# Altium footprint library us_#2.PcbLib: 14 footprints
Each footprint in its own frame and in the unit in brackets; x right, y up, seen from the top. Pads: shape width x height; smd on the part's side, far side on the other; paste and mask are expansions set on the pad; w line width, h text height; cw(c..) or ccw(c..) is an arc to the next point about the centre after c.
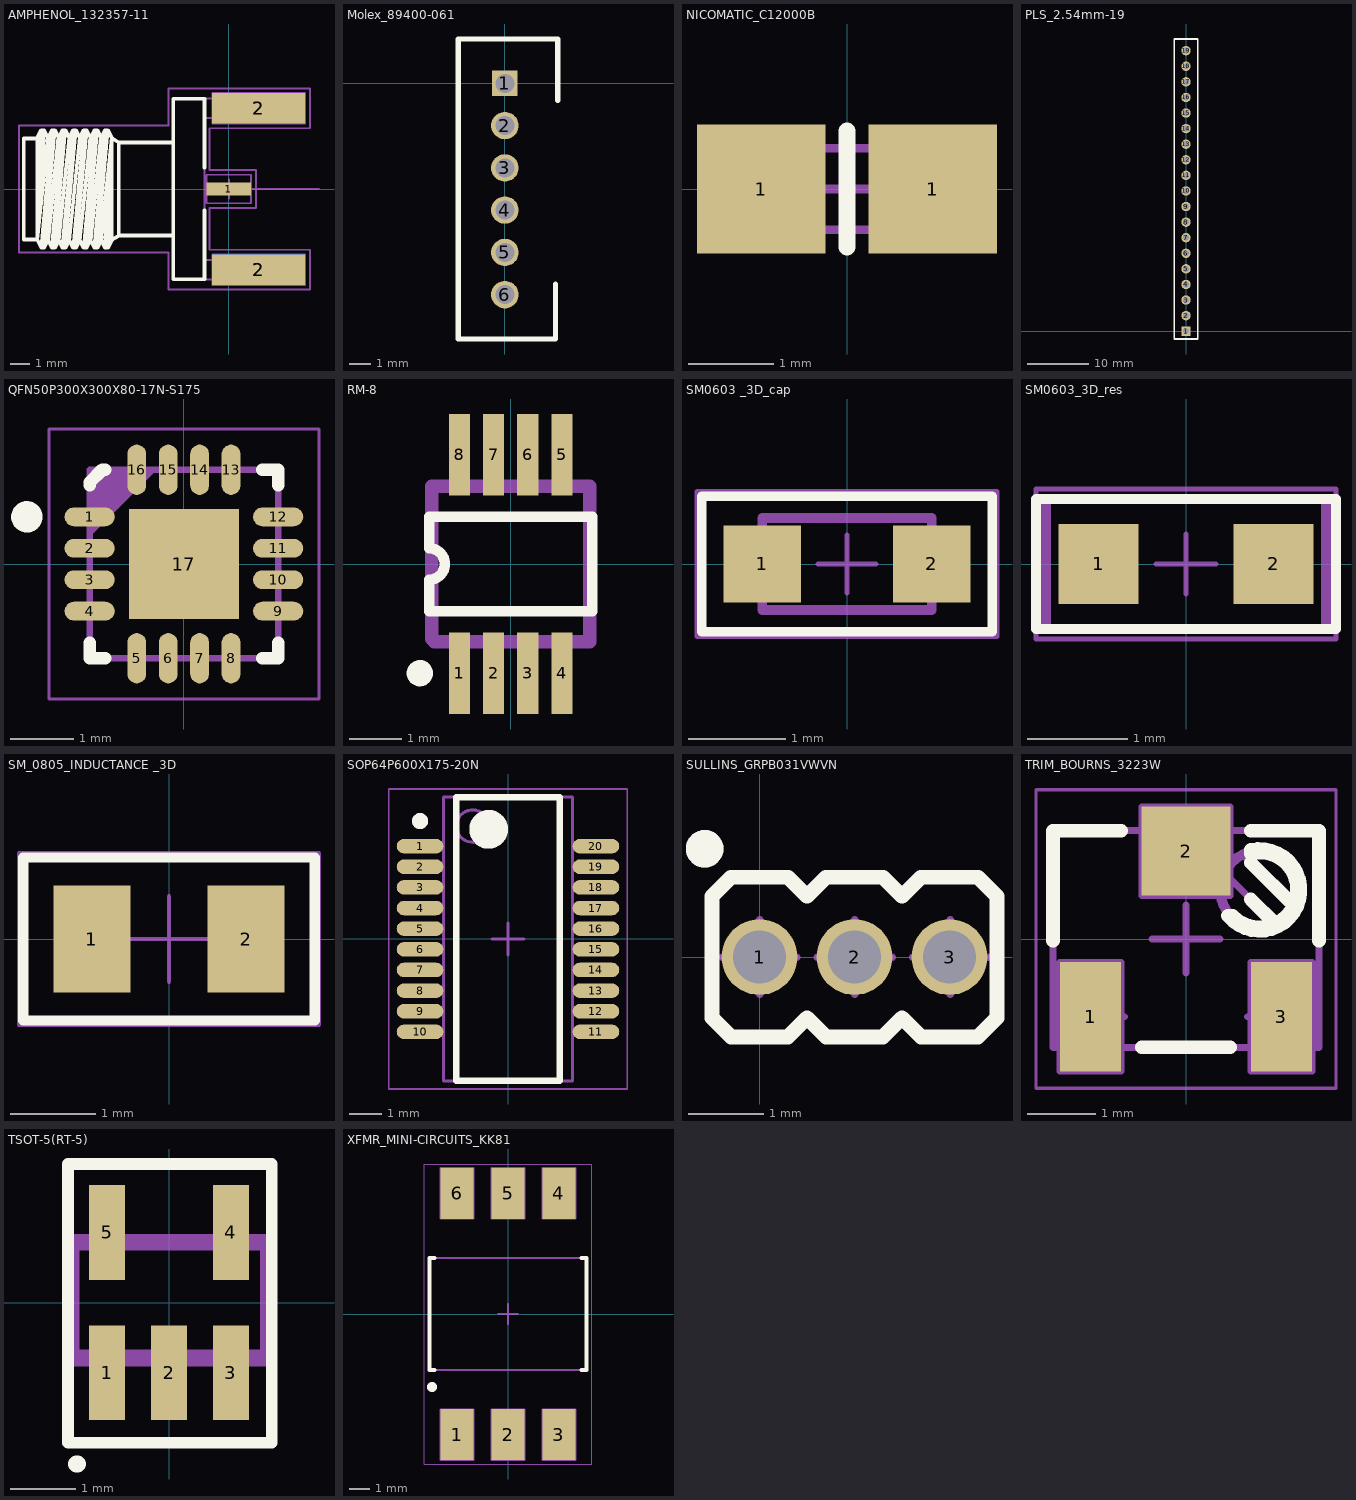
[diagram p0: the footprints below, top view; thin cyan lines are the x and y axes]

## AMPHENOL_132357-11 [mm]
pads (5):
  rect 2.35x0.7 smd: 1(0,0)
  rect 4.9x1.6 smd: 2(1.575,-4.25) 2(1.575,4.25)
  rect 4.9x1.6 smd far side: 2(1.575,-4.25) 2(1.575,4.25)
Top Overlay:
  lines w0.2: -10.09,2.665 -10.805,2.665 -10.805,-2.665 -10.09,-2.665 ; -6.17,-2.665 -5.795,-2.453 ; -2.925,-2.453 -5.795,-2.453 ; -2.925,2.447 -5.795,2.447 ; -1.275,-1.137 -1.275,-4.76 -2.925,-4.76 -2.925,4.76 -1.275,4.76 -1.275,1.137 ; -10.09,-2.665 -10.09,2.715 -9.879,3.094 ; -10.09,-2.665 -9.879,-3.094 ; -10.09,-2.665 -9.53,2.715 ; -10.09,-2.665 -9.741,3.094 ; -10.09,-2.665 -9.879,3.094 ; -9.879,-3.094 -9.741,-3.094 ; -9.879,-3.094 -9.319,3.094 ; -9.879,3.094 -9.741,3.094 ; -9.741,-3.094 -9.53,-2.715 ; -9.741,-3.094 -9.181,3.094 ; -9.741,3.094 -9.53,2.715 ; -9.53,-2.715 -9.319,-3.094 ; -9.53,-2.715 -8.97,2.715 ; -9.53,2.715 -9.319,3.094 ; -9.319,-3.094 -9.181,-3.094 ; -9.319,-3.094 -8.759,3.094 ; -9.319,3.094 -9.181,3.094 ; -9.181,-3.094 -8.97,-2.715 ; -9.181,-3.094 -8.621,3.094 ; -9.181,3.094 -8.97,2.715 ; -8.97,-2.715 -8.759,-3.094 ; -8.97,-2.715 -8.41,2.715 ; -8.97,2.715 -8.759,3.094 ; -8.759,-3.094 -8.621,-3.094 ; -8.759,-3.094 -8.199,3.094 ; -8.759,3.094 -8.621,3.094 ; -8.621,-3.094 -8.41,-2.715 ; -8.621,-3.094 -8.061,3.094 ; -8.621,3.094 -8.41,2.715 ; -8.41,-2.715 -8.199,-3.094 ; -8.41,-2.715 -7.85,2.715 ; -8.41,2.715 -8.199,3.094 ; -8.199,-3.094 -8.061,-3.094 ; -8.199,-3.094 -7.639,3.094 ; -8.199,3.094 -8.061,3.094 ; -8.061,-3.094 -7.85,-2.715 ; -8.061,-3.094 -7.501,3.094 ; -8.061,3.094 -7.85,2.715 ; -7.85,-2.715 -7.639,-3.094 ; -7.85,-2.715 -7.29,2.715 ; -7.85,2.715 -7.639,3.094 ; -7.639,-3.094 -7.501,-3.094 ; -7.639,-3.094 -7.079,3.094 ; -7.639,3.094 -7.501,3.094 ; -7.501,-3.094 -7.29,-2.715 ; -7.501,-3.094 -6.941,3.094 ; -7.501,3.094 -7.29,2.715 ; -7.29,-2.715 -7.079,-3.094 ; -7.29,-2.715 -6.73,2.715 ; -7.29,2.715 -7.079,3.094 ; -7.079,-3.094 -6.941,-3.094 ; -7.079,-3.094 -6.519,3.094 ; -7.079,3.094 -6.941,3.094 ; -6.941,-3.094 -6.73,-2.715 ; -6.941,-3.094 -6.381,3.094 ; -6.941,3.094 -6.73,2.715 ; -6.73,-2.715 -6.519,-3.094 ; -6.73,-2.715 -6.17,2.713 ; -6.73,2.715 -6.519,3.094 ; -6.519,-3.094 -6.381,-3.094 ; -6.519,-3.094 -6.17,2.713 ; -6.519,3.094 -6.381,3.094 ; -6.381,-3.094 -6.17,-2.715 -6.17,2.713 ; -6.381,-3.094 -6.17,2.665 -5.795,2.447 ; -6.381,3.094 -6.17,2.713 ; -5.795,-2.453 -5.795,2.447
Mechanical 8:
  lines w0.1: -0.5,0 0,0 ; 0,-0.5 0,0 ; 0,0.5 0,0 ; 0.5,0 0,0 ; 1.075,-4.25 1.575,-4.25 ; 1.075,4.25 1.575,4.25 ; 1.575,-4.75 1.575,-4.25 ; 1.575,-3.75 1.575,-4.25 ; 1.575,3.75 1.575,4.25 ; 1.575,4.75 1.575,4.25 ; 2.075,-4.25 1.575,-4.25 ; 2.075,4.25 1.575,4.25 ; -1.175,-0.75 -1.175,0.75 1.175,0.75 1.175,-0.75 -1.175,-0.75 ; -0.875,-5.05 4.025,-5.05 4.025,-3.45 -0.875,-3.45 -0.875,-5.05 ; -0.875,3.45 4.025,3.45 4.025,5.05 -0.875,5.05 -0.875,3.45
Mechanical 14:
  lines w0.1: -10.09,2.665 -10.805,2.665 -10.805,-2.665 -10.09,-2.665 ; -6.17,-2.665 -5.795,-2.453 ; -2.925,-2.453 -5.795,-2.453 ; -2.925,2.447 -5.795,2.447 ; -1.275,-4.76 -1.275,0 ; -1.275,-3.74 3.475,-3.74 3.475,-4.76 -2.925,-4.76 -2.925,4.76 3.475,4.76 3.475,3.74 -1.275,3.74 ; -1.275,-0.251 0.635,-0.251 0.635,0.251 -1.275,0.251 ; -1.275,4.76 -1.275,0 ; 4.75,0 -1.275,0 ; -10.09,-2.665 -10.09,2.715 -9.879,3.094 ; -10.09,-2.665 -9.879,-3.094 ; -10.09,-2.665 -9.53,2.715 ; -10.09,-2.665 -9.741,3.094 ; -10.09,-2.665 -9.879,3.094 ; -9.879,-3.094 -9.741,-3.094 ; -9.879,-3.094 -9.319,3.094 ; -9.879,3.094 -9.741,3.094 ; -9.741,-3.094 -9.53,-2.715 ; -9.741,-3.094 -9.181,3.094 ; -9.741,3.094 -9.53,2.715 ; -9.53,-2.715 -9.319,-3.094 ; -9.53,-2.715 -8.97,2.715 ; -9.53,2.715 -9.319,3.094 ; -9.319,-3.094 -9.181,-3.094 ; -9.319,-3.094 -8.759,3.094 ; -9.319,3.094 -9.181,3.094 ; -9.181,-3.094 -8.97,-2.715 ; -9.181,-3.094 -8.621,3.094 ; -9.181,3.094 -8.97,2.715 ; -8.97,-2.715 -8.759,-3.094 ; -8.97,-2.715 -8.41,2.715 ; -8.97,2.715 -8.759,3.094 ; -8.759,-3.094 -8.621,-3.094 ; -8.759,-3.094 -8.199,3.094 ; -8.759,3.094 -8.621,3.094 ; -8.621,-3.094 -8.41,-2.715 ; -8.621,-3.094 -8.061,3.094 ; -8.621,3.094 -8.41,2.715 ; -8.41,-2.715 -8.199,-3.094 ; -8.41,-2.715 -7.85,2.715 ; -8.41,2.715 -8.199,3.094 ; -8.199,-3.094 -8.061,-3.094 ; -8.199,-3.094 -7.639,3.094 ; -8.199,3.094 -8.061,3.094 ; -8.061,-3.094 -7.85,-2.715 ; -8.061,-3.094 -7.501,3.094 ; -8.061,3.094 -7.85,2.715 ; -7.85,-2.715 -7.639,-3.094 ; -7.85,-2.715 -7.29,2.715 ; -7.85,2.715 -7.639,3.094 ; -7.639,-3.094 -7.501,-3.094 ; -7.639,-3.094 -7.079,3.094 ; -7.639,3.094 -7.501,3.094 ; -7.501,-3.094 -7.29,-2.715 ; -7.501,-3.094 -6.941,3.094 ; -7.501,3.094 -7.29,2.715 ; -7.29,-2.715 -7.079,-3.094 ; -7.29,-2.715 -6.73,2.715 ; -7.29,2.715 -7.079,3.094 ; -7.079,-3.094 -6.941,-3.094 ; -7.079,-3.094 -6.519,3.094 ; -7.079,3.094 -6.941,3.094 ; -6.941,-3.094 -6.73,-2.715 ; -6.941,-3.094 -6.381,3.094 ; -6.941,3.094 -6.73,2.715 ; -6.73,-2.715 -6.519,-3.094 ; -6.73,-2.715 -6.17,2.713 ; -6.73,2.715 -6.519,3.094 ; -6.519,-3.094 -6.381,-3.094 ; -6.519,-3.094 -6.17,2.713 ; -6.519,3.094 -6.381,3.094 ; -6.381,-3.094 -6.17,-2.715 -6.17,2.713 ; -6.381,-3.094 -6.17,2.665 -5.795,2.447 ; -6.381,3.094 -6.17,2.713 ; -5.795,-2.453 -5.795,2.447
Mechanical 15:
  lines w0.1: -11.055,-3.344 -3.175,-3.344 -3.175,-5.3 4.275,-5.3 4.275,-3.2 -1.025,-3.2 -1.025,-1 1.425,-1 1.425,1 -1.025,1 -1.025,3.2 4.275,3.2 4.275,5.3 -3.175,5.3 -3.175,3.344 -11.055,3.344 -11.055,-3.344
3D body: height 4.08, standoff -3.84, extent -10.805,-4.76 3.475,4.76

## Molex_89400-061 [mm]
pads (6):
  rect 1.2x1.2 hole 0.9: 1(0,0)
  round 1.3 hole 0.9: 2(0,-2) 3(0,-4) 4(0,-6) 5(0,-8) 6(0,-10)
Top Overlay:
  lines w0.25: -2.2,-12.1 -2.2,2.1 2.5,2.1
  lines w0.254: -2.2,-12.1 2.4,-12.1 2.4,-9.5 ; 2.5,-0.8 2.5,2.1

## NICOMATIC_C12000B [mm]
pads (2):
  rect 1.5x1.5 smd: 1(-1,0) 1(1,0)
Top Overlay:
  lines w0.2: 0,-0.675 0,0.675
Mechanical 8:
  lines w0.1: -0.6,0 0,0 ; 0,-0.6 0,0 ; 0,0.6 0,0 ; 0.6,0 0,0
Mechanical 14:
  lines w0.1: -1.25,-0.675 -1.25,0.675 -0.35,0.675 -0.35,0.475 0.35,0.475 0.35,0.675 1.25,0.675 1.25,-0.675 0.35,-0.675 0.35,-0.475 -0.35,-0.475 -0.35,-0.675 -1.25,-0.675
3D body: height 1.5, standoff 0, extent -1.25,-0.675 1.25,0.675

## PLS_2.54mm-19 [mil]
pads (19):
  rect 60x60 hole 38: 1(0,0)
  round 60 hole 38: 2(0,100) 3(0,200) 4(0,300) 5(0,400) 6(0,500) 7(0,600) 8(0,700) 9(0,800) 10(0,900) 11(0,1000) 12(0,1100) 13(0,1200) 14(0,1300) 15(0,1400) 16(0,1500) 17(0,1600) 18(0,1700) 19(0,1800)
Top Overlay:
  lines w10: -75,-50 -75,50 -75,450 -75,1875 75,1875 75,-50 -75,-50

## QFN50P300X300X80-17N-S175 [mm]
pads (17):
  oval 0.8x0.3 smd: 1(-1.5,0.75) 2(-1.5,0.25) 3(-1.5,-0.25) 4(-1.5,-0.75) 9(1.5,-0.75) 10(1.5,-0.25) 11(1.5,0.25) 12(1.5,0.75)
  oval 0.3x0.8 smd: 5(-0.75,-1.5) 6(-0.25,-1.5) 7(0.25,-1.5) 8(0.75,-1.5) 13(0.75,1.5) 14(0.25,1.5) 15(-0.25,1.5) 16(-0.75,1.5)
  rect 1.75x1.75 smd: 17(0,0)
Top Overlay:
  circle w0.25: c-2.5,0.75 r0.125
  lines w0.2: -1.5,-1.25 -1.5,-1.5 -1.25,-1.5 ; -1.5,1.25 -1.5,1.3 -1.3,1.5 -1.25,1.5 ; 1.25,-1.5 1.5,-1.5 1.5,-1.25 ; 1.25,1.5 1.5,1.5 1.5,1.25
Mechanical 14:
  lines w0.1: -1.5,0.5 -0.5,1.5 ; -1.5,0.6 -0.6,1.5 ; -1.5,0.7 -0.7,1.5 ; -1.5,0.8 -0.8,1.5 ; -1.5,0.9 -0.9,1.5 ; -1.5,1 -1,1.5 ; -1.5,1.1 -1.1,1.5 ; -1.5,1.2 -1.2,1.5 ; -1.5,1.3 -1.3,1.5 ; -1.5,1.4 -1.4,1.5 ; -1.5,-1.5 -1.5,1.5 1.5,1.5 1.5,-1.5 -1.5,-1.5
Mechanical 15:
  circle w0.05: c0,0 r0.35
  lines w0.05: -0.5,0 0.5,0 ; 0,-0.5 0,0.5 ; -2.15,-2.15 -2.15,2.15 2.15,2.15 2.15,-2.15 -2.15,-2.15
3D body: height 0.8, standoff 0, extent -1.575,-1.575 1.575,1.575

## RM-8 [mm]
pads (8):
  rect 0.4x1.55 smd: 1(-0.975,-2.075) 2(-0.325,-2.075) 3(0.325,-2.075) 4(0.975,-2.075) 5(0.975,2.075) 6(0.325,2.075) 7(-0.325,2.075) 8(-0.975,2.075)
Top Overlay:
  circle w0.25: c-1.725,-2.075 r0.125
  lines w0.2: -1.55,-0.9 -1.55,-0.3 ccw(c-1.55,0) -1.55,0.3 -1.55,0.9 1.55,0.9 1.55,-0.9 -1.55,-0.9
Mechanical 15:
  lines w0.254: -1.5,-1.425 -1.5,1.475 1.5,1.475 1.5,-1.475 0.763,-1.475 0.394,-1.475 -0.344,-1.475 -0.713,-1.475 -1.45,-1.475
3D body: height 1.1, standoff 0.15, extent -1.627,-1.602 1.627,1.602

## SM0603 _3D_cap [mm]
pads (2):
  rect 0.8x0.8 smd: 1(-0.875,0) 2(0.875,0)
Top Overlay:
  lines w0.1: -1.5,-0.7 -1.5,0.7 1.5,0.7 1.5,-0.7 -1.5,-0.7
Mechanical 14:
  lines w0.1: -0.875,-0.475 -0.875,0.475 0.875,0.475 0.875,-0.475 -0.875,-0.475
Mechanical 15:
  lines w0.05: -0.3,0 0.3,0 ; 0,-0.3 0,0.3 ; -1.55,-0.75 1.55,-0.75 1.55,0.75 -1.55,0.75 -1.55,-0.75
3D body: height 0.87, standoff 0, extent -0.875,-0.475 0.875,0.475

## SM0603_3D_res [mm]
pads (2):
  rect 0.8x0.8 smd: 1(-0.875,0) 2(0.875,0)
Top Overlay:
  lines w0.1: -1.5,-0.65 -1.5,0.65 1.5,0.65 1.5,-0.65 -1.5,-0.65
Mechanical 14:
  lines w0.1: -1.4,-0.65 -1.4,0.65 1.4,0.65 1.4,-0.65 -1.4,-0.65
Mechanical 15:
  lines w0.05: -0.3,0 0.3,0 ; 0,-0.3 0,0.3 ; -1.5,-0.75 1.5,-0.75 1.5,0.75 -1.5,0.75 -1.5,-0.75
3D body: height 0.55, standoff 0, extent -0.875,-0.475 0.875,0.475

## SM_0805_INDUCTANCE _3D [mm]
pads (2):
  rect 0.9x1.25 smd: 1(-0.9,0) 2(0.9,0)
Top Overlay:
  lines w0.12: -1.7,-0.95 1.7,-0.95 1.7,0.95 -1.7,0.95 -1.7,-0.95
Mechanical 14:
  lines w0.1: -1.7,-0.95 1.7,-0.95 1.7,0.95 -1.7,0.95 -1.7,-0.95
Mechanical 15:
  lines w0.05: -0.5,0 0.5,0 ; 0,-0.5 0,0.5 ; -1.75,-1 1.75,-1 1.75,1 -1.75,1 -1.75,-1
3D body: height 1.1, standoff 0, extent -1.1,-0.7 1.1,0.7

## SOP64P600X175-20N [mm]
pads (20):
  oval 1.45x0.45 smd: 1(-2.725,2.88) 2(-2.725,2.24) 3(-2.725,1.6) 4(-2.725,0.96) 5(-2.725,0.32) 6(-2.725,-0.32) 7(-2.725,-0.96) 8(-2.725,-1.6) 9(-2.725,-2.24) 10(-2.725,-2.88) 11(2.725,-2.88) 12(2.725,-2.24) 13(2.725,-1.6) 14(2.725,-0.96) 15(2.725,-0.32) 16(2.725,0.32) 17(2.725,0.96) 18(2.725,1.6) 19(2.725,2.24) 20(2.725,2.88)
Top Overlay:
  circle w0.6: c-0.6,3.4 r0.3
  circle w0.25: c-2.725,3.655 r0.125
  lines w0.2: -1.6,-4.4 1.6,-4.4 1.6,4.4 -1.6,4.4 -1.6,-4.4
Mechanical 13:
  circle w0.1: c-1.1,3.5 r0.5
  lines w0.1: -2,-4.4 2,-4.4 2,4.4 -2,4.4 -2,-4.4
Mechanical 15:
  lines w0.05: -3.7,-4.65 3.7,-4.65 3.7,4.65 -3.7,4.65 -3.7,-4.65
  lines w0.1: -0.5,0 0.5,0 ; 0,-0.5 0,0.5
3D body: height 1.75, standoff 0, extent -2,-4.4 2,4.4

## SULLINS_GRPB031VWVN [mil]
pads (3):
  round 40 hole 28: 1(0,0) 2(50,0) 3(100,0)
Top Overlay:
  circle w11.81: c-28.91,57 r4
  lines w7.87: -25,-32 -25,32 -15,42 15,42 25,32 35,42 65,42 75,32 85,42 115,42 125,32 125,-32 115,-42 85,-42 75,-32 65,-42 35,-42 25,-32 15,-42 -15,-42 -25,-32
Mechanical 8:
  lines w3.94: -19.69,0 0,0 ; 0,-19.69 0,0 ; 0,19.69 0,0 ; 19.68,0 0,0 ; 30.51,0 50.2,0 ; 50.2,-19.69 50.2,0 ; 50.2,19.69 50.2,0 ; 69.88,0 50.2,0 ; 80.71,0 100.39,0 ; 100.39,-19.69 100.39,0 ; 100.39,19.69 100.39,0 ; 120.08,0 100.39,0
Mechanical 14:
  circle w11.81: c-28.91,57 r4
  lines w3: -25,-32 -15,-42 15,-42 25,-32 35,-42 65,-42 75,-32 85,-42 115,-42 125,-32 125,32 115,42 85,42 75,32 65,42 35,42 25,32 15,42 -15,42 -25,32 -25,-32

## TRIM_BOURNS_3223W [mm]
pads (3):
  rect 0.9x1.6 smd: 1(-1.4,-1.14) 3(1.4,-1.14)
  rect 1.3x1.3 smd: 2(0,1.29)
Top Overlay:
  lines w0.2: -1.95,-0.025 -1.95,1.59 -0.95,1.59 ; -0.65,-1.59 0.65,-1.59 ; 0.616,0.34 ccw(c1.08,0.72) 0.95,1.306 ; 0.682,0.34 ccw(c1.08,0.72) 0.95,1.254 ; 0.95,0.581 1.311,0.221 ; 0.95,1.119 1.579,0.489 ; 0.95,1.59 1.95,1.59 1.95,-0.025
Mechanical 8:
  lines w0.1: -1.9,-1.14 -1.4,-1.14 ; -1.4,-1.64 -1.4,-1.14 ; -1.4,-0.64 -1.4,-1.14 ; -0.9,-1.14 -1.4,-1.14 ; -0.5,0 0,0 ; -0.5,1.29 0,1.29 ; 0,-0.5 0,0 ; 0,0.5 0,0 ; 0,0.79 0,1.29 ; 0,1.79 0,1.29 ; 0.5,0 0,0 ; 0.5,1.29 0,1.29 ; 0.9,-1.14 1.4,-1.14 ; 1.4,-1.64 1.4,-1.14 ; 1.4,-0.64 1.4,-1.14 ; 1.9,-1.14 1.4,-1.14 ; -1.85,-1.94 -0.95,-1.94 -0.95,-0.34 -1.85,-0.34 -1.85,-1.94 ; -0.65,0.64 -0.65,1.94 0.65,1.94 0.65,0.64 -0.65,0.64 ; 0.95,-1.94 1.85,-1.94 1.85,-0.34 0.95,-0.34 0.95,-1.94
Mechanical 14:
  circle w0.1: c1.08,0.72 r0.6
  circle w0.1: c1.08,0.72 r0.55
  lines w0.1: -1.66,-1.59 -1.66,-1.807 -1.1,-1.81 -1.1,-1.59 ; -0.49,1.59 -0.49,1.81 0.49,1.81 0.49,1.59 ; 0.581,0.951 1.311,0.221 ; 0.849,1.219 1.579,0.489 ; 1.1,-1.59 1.1,-1.81 1.66,-1.81 1.66,-1.59 ; -1.95,-1.59 1.95,-1.59 1.95,1.59 -1.95,1.59 -1.95,-1.59
Mechanical 15:
  lines w0.05: -2.2,-2.19 -2.2,2.19 2.2,2.19 2.2,-2.19 -2.2,-2.19
3D body: height 4.16, standoff 0, extent -1.95,-1.81 1.95,1.81

## TSOT-5(RT-5) [mm]
pads (5):
  rect 0.55x1.45 smd: 1(-0.95,-1.075) 2(0,-1.075) 3(0.95,-1.075) 4(0.95,1.075) 5(-0.95,1.075)
Top Overlay:
  lines w0.18: -1.55,-2.15 -1.55,2.125 1.575,2.125 1.575,-2.15 1.042,-2.15 -1.025,-2.15 -1.55,-2.15
  lines w0.254: -1.425,-2.475 -1.4,-2.475
Mechanical 15:
  lines w0.254: -1.5,-0.85 1.525,-0.85 1.525,0.925 -1.5,0.925 -1.5,-0.85
3D body: height 1, standoff 0.15, extent -1.627,-0.977 1.652,1.052

## XFMR_MINI-CIRCUITS_KK81 [mm]
pads (6):
  rect 1.65x2.54 smd: 1(-2.54,-6.032) 2(0,-6.032) 3(2.54,-6.032) 4(2.54,6.032) 5(0,6.032) 6(-2.54,6.032)
Top Overlay:
  circle w0.25: c-3.8,-3.65 r0.125
  lines w0.2: -3.665,-2.79 -3.935,-2.79 -3.935,2.79 -3.665,2.79 ; 3.665,-2.79 3.935,-2.79 3.935,2.79 3.665,2.79
Mechanical 8:
  lines w0.1: -3.04,-6.04 -2.54,-6.04 ; -3.04,6.04 -2.54,6.04 ; -3.04,6.68 -2.54,6.68 ; -2.54,-6.54 -2.54,-6.04 ; -2.54,-5.54 -2.54,-6.04 ; -2.54,5.54 -2.54,6.04 ; -2.54,6.18 -2.54,6.68 ; -2.54,6.54 -2.54,6.04 ; -2.54,7.18 -2.54,6.68 ; -2.04,-6.04 -2.54,-6.04 ; -2.04,6.04 -2.54,6.04 ; -2.04,6.68 -2.54,6.68 ; -0.5,-6.04 0,-6.04 ; -0.5,0 0,0 ; -0.5,6.04 0,6.04 ; 0,-6.54 0,-6.04 ; 0,-5.54 0,-6.04 ; 0,-0.5 0,0 ; 0,0.5 0,0 ; 0,5.54 0,6.04 ; 0,6.54 0,6.04 ; 0.5,-6.04 0,-6.04 ; 0.5,0 0,0 ; 0.5,6.04 0,6.04 ; 2.04,-6.04 2.54,-6.04 ; 2.04,6.04 2.54,6.04 ; 2.54,-6.54 2.54,-6.04 ; 2.54,-5.54 2.54,-6.04 ; 2.54,5.54 2.54,6.04 ; 2.54,6.54 2.54,6.04 ; 3.04,-6.04 2.54,-6.04 ; 3.04,6.04 2.54,6.04 ; -3.365,-7.31 -1.715,-7.31 -1.715,-4.77 -3.365,-4.77 -3.365,-7.31 ; -3.365,4.77 -3.365,7.31 -1.715,7.31 -1.715,4.77 -3.365,4.77 ; -0.825,-7.31 -0.825,-4.77 0.825,-4.77 0.825,-7.31 -0.825,-7.31 ; -0.825,4.77 -0.825,7.31 0.825,7.31 0.825,4.77 -0.825,4.77 ; 1.715,-7.31 1.715,-4.77 3.365,-4.77 3.365,-7.31 1.715,-7.31 ; 1.715,4.77 1.715,7.31 3.365,7.31 3.365,4.77 1.715,4.77
Mechanical 14:
  circle w0.25: c-3.8,-3.65 r0.125
  lines w0.1: -2.92,-6.29 -2.92,-6.95 -2.16,-6.95 -2.16,-6.29 ; -2.92,6.29 -2.92,6.95 -2.16,6.95 -2.16,6.29 ; -0.38,-6.29 -0.38,-6.95 0.38,-6.95 0.38,-6.29 ; -0.38,6.29 -0.38,6.95 0.38,6.95 0.38,6.29 ; 2.16,-6.29 2.16,-6.95 2.92,-6.95 2.92,-6.29 ; 2.16,6.29 2.16,6.95 2.92,6.95 2.92,6.29 ; -3.935,-2.79 3.935,-2.79 3.935,2.79 -3.935,2.79 -3.935,-2.79
Mechanical 15:
  lines w0.05: -4.185,-7.5 4.185,-7.5 4.185,7.5 -4.185,7.5 -4.185,-7.5